# Altium schematic symbol library MB0037A.01.A.1.SchLib: 1 symbol
Pins are listed as number, name and electrical type; pins without a type are passive.

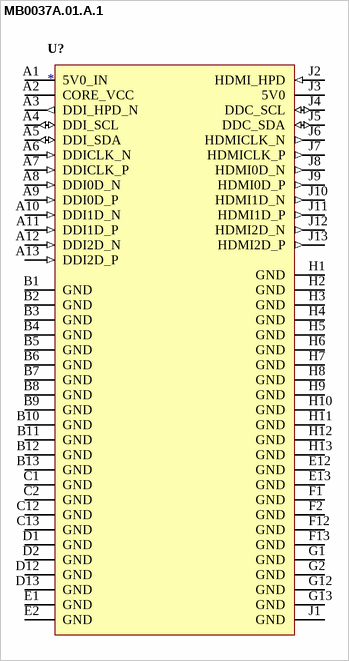
[diagram p0: symbol MB0037A.01.A.1]

## MB0037A.01.A.1
designator U?
pins: A1 5V0_IN (power), A2 CORE_VCC (power), A3 DDI_HPD_N (out), A4 DDI_SCL (io), A5 DDI_SDA (io), A6 DDICLK_N (in), A7 DDICLK_P (in), A8 DDI0D_N (in), A9 DDI0D_P (in), A10 DDI1D_N (in), A11 DDI1D_P (in), A12 DDI2D_N (in), A13 DDI2D_P (in), B1 GND (power), B2 GND (power), B3 GND (power), B4 GND (power), B5 GND (power), B6 GND (power), B7 GND (power), B8 GND (power), B9 GND (power), B10 GND (power), B11 GND (power), B12 GND (power), B13 GND (power), C1 GND (power), C2 GND (power), C12 GND (power), C13 GND (power), D1 GND (power), D2 GND (power), D12 GND (power), D13 GND (power), E1 GND (power), E2 GND (power), E12 GND (power), E13 GND (power), F1 GND (power), F2 GND (power), F12 GND (power), F13 GND (power), G1 GND (power), G2 GND (power), G12 GND (power), G13 GND (power), H1 GND (power), H2 GND (power), H3 GND (power), H4 GND (power), H5 GND (power), H6 GND (power), H7 GND (power), H8 GND (power), H9 GND (power), H10 GND (power), H11 GND (power), H12 GND (power), H13 GND (power), J1 GND (power), J2 HDMI_HPD (in), J3 5V0 (power), J4 DDC_SCL (io), J5 DDC_SDA (io), J6 HDMICLK_N (out), J7 HDMICLK_P (out), J8 HDMI0D_N (out), J9 HDMI0D_P (out), J10 HDMI1D_N (out), J11 HDMI1D_P (out), J12 HDMI2D_N (out), J13 HDMI2D_P (out)